# EAGLE library part 418311270806 (library Wurth_Elektronik_Electromechanic_Switch_rev16b)
WS-PT 2.54 mm piano type compact SMD Dip Switch with raised actuator, 6 Pole
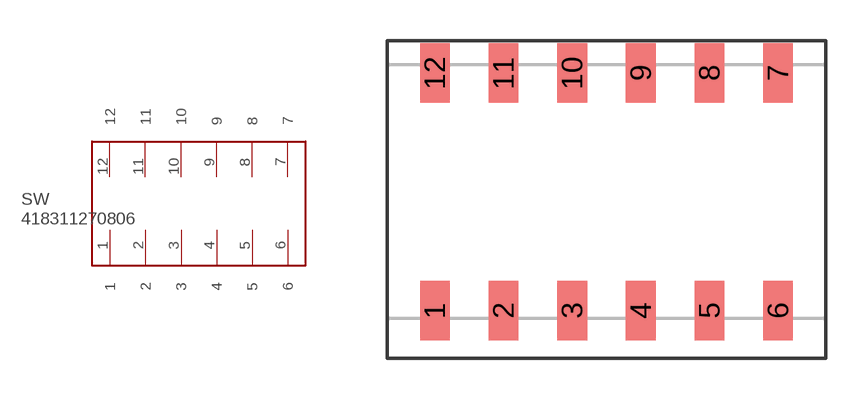
[diagram p94: symbol with the pads of 418311270806; footprint 418311270806]

Designator prefix SW

## 418311270806  [418311270806]
1  1
2  2
3  3
4  4
5  5
6  6
7  7
8  8
9  9
10  10
11  11
12  12

## Footprint 418311270806 (pad centres in mm)
WS-PT 2.54 mm piano type compact SMD Dip Switch with raised actuator, 6 Pole
smd 1.1 x 2.2: 1 -6.35,-4.4; 2 -3.81,-4.4; 3 -1.27,-4.4; 4 1.27,-4.4; 5 3.81,-4.4; 6 6.35,-4.4; 7 6.35,4.4; 8 3.81,4.4; 9 1.27,4.4; 10 -1.27,4.4; 11 -3.81,4.4; 12 -6.35,4.4